# Altium footprint library SHTC3-TR-2P5KS.PcbLib: 3 footprints
Each footprint in its own frame and in the unit in brackets; x right, y up, seen from the top. Pads: shape width x height; smd on the part's side, far side on the other; paste and mask are expansions set on the pad; w line width, h text height; cw(c..) or ccw(c..) is an arc to the next point about the centre after c.
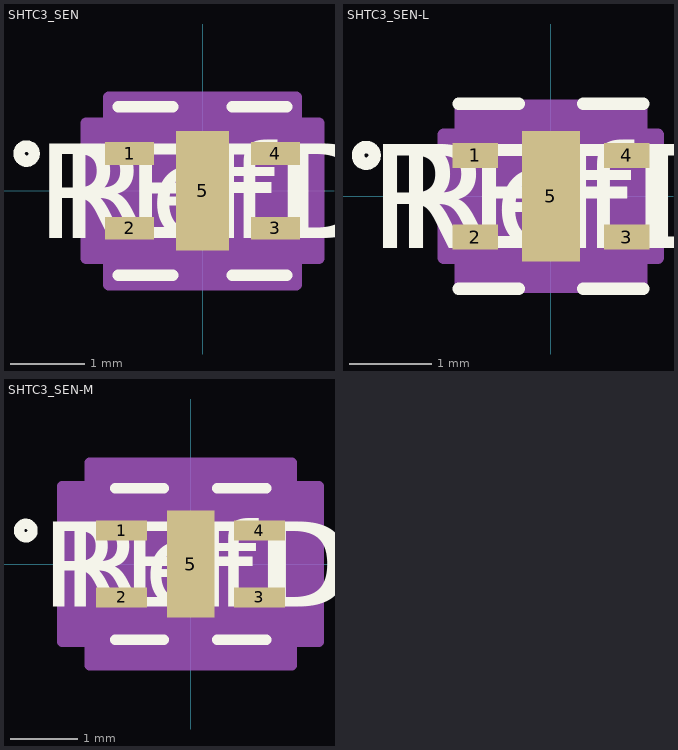
[diagram p0: the footprints below, top view; thin cyan lines are the x and y axes]

## SHTC3_SEN [mil]
pads (5):
  rect 26x12 smd paste+0 mask+0: 1(-38.5,19.68) 2(-38.5,-19.68) 3(38.5,-19.68) 4(38.5,19.68)
  rect 28x63 smd paste+0 mask+0: 5(0,0)
Top Overlay:
  circle w6: c-92.87,19.68 r4
  lines w6: -44.5,-44.5 -15.62,-44.5 ; -44.5,44.5 -15.62,44.5 ; 15.62,-44.5 44.5,-44.5 ; 15.62,44.5 44.5,44.5
  text "RefDes" at -75,-25 h50
  text "REFDES" at -87.5,-25 h50
Mechanical 13:
  circle w0: c-25.5,19.68 r3
  lines w0: -12,39.5 ccw(c0,39.5) 12,39.5
  lines w1: -39.5,-39.5 39.5,-39.5 39.5,39.5 -39.5,39.5 -39.5,-39.5
  text "RefDes2" at -87.5,-25 h50
Mechanical 15:
  region: -49.5,-35.69 -61.5,-35.69 -61.5,35.69 -49.5,35.69 -49.5,49.5 49.5,49.5 49.5,35.69 61.5,35.69 61.5,-35.69 49.5,-35.69 49.5,-49.5 -49.5,-49.5
  lines w6: -61.5,-35.69 -61.5,35.69 -49.5,35.69 -49.5,49.5 49.5,49.5 49.5,35.69 61.5,35.69 61.5,-35.69 49.5,-35.69 49.5,-49.5 -49.5,-49.5 -49.5,-35.69 -61.5,-35.69
3D body "SHTC3_SEN.step": height 30.12, standoff 0, extent -39.49,-39.49 39.49,39.49

## SHTC3_SEN-L [mil]
pads (5):
  rect 22x12 smd paste+0 mask+0: 1(-36.5,19.68) 2(-36.5,-19.68) 3(36.5,-19.68) 4(36.5,19.68)
  rect 28x63 smd paste+0 mask+0: 5(0,0)
Top Overlay:
  circle w6: c-88.87,19.68 r4
  lines w6: -44.5,-44.5 -15.62,-44.5 ; -44.5,44.5 -15.62,44.5 ; 15.62,-44.5 44.5,-44.5 ; 15.62,44.5 44.5,44.5
  text "RefDes" at -75,-25 h50
  text "REFDES" at -87.5,-25 h50
Mechanical 13:
  circle w0: c-25.5,19.68 r3
  lines w0: -12,39.5 ccw(c0,39.5) 12,39.5
  lines w1: -39.5,-39.5 39.5,-39.5 39.5,39.5 -39.5,39.5 -39.5,-39.5
  text "RefDes2" at -87.5,-25 h50
Mechanical 15:
  region: -43.5,-29.68 -51.5,-29.68 -51.5,29.68 -43.5,29.68 -43.5,43.5 43.5,43.5 43.5,29.68 51.5,29.68 51.5,-29.68 43.5,-29.68 43.5,-43.5 -43.5,-43.5
  lines w6: -51.5,-29.68 -51.5,29.68 -43.5,29.68 -43.5,43.5 43.5,43.5 43.5,29.68 51.5,29.68 51.5,-29.68 43.5,-29.68 43.5,-43.5 -43.5,-43.5 -43.5,-29.68 -51.5,-29.68
3D body "SHTC3_SEN.step": height 30.12, standoff 0, extent -39.49,-39.49 39.49,39.49

## SHTC3_SEN-M [mil]
pads (5):
  rect 30x12 smd paste+0 mask+0: 1(-40.5,19.68) 2(-40.5,-19.68) 3(40.5,-19.68) 4(40.5,19.68)
  rect 28x63 smd paste+0 mask+0: 5(0,0)
Top Overlay:
  circle w6: c-96.87,19.68 r4
  lines w6: -44.5,-44.5 -15.62,-44.5 ; -44.5,44.5 -15.62,44.5 ; 15.62,-44.5 44.5,-44.5 ; 15.62,44.5 44.5,44.5
  text "RefDes" at -75,-25 h50
  text "REFDES" at -87.5,-25 h50
Mechanical 13:
  circle w0: c-25.5,19.68 r3
  lines w0: -12,39.5 ccw(c0,39.5) 12,39.5
  lines w1: -39.5,-39.5 39.5,-39.5 39.5,39.5 -39.5,39.5 -39.5,-39.5
  text "RefDes2" at -87.5,-25 h50
Mechanical 15:
  region: -59.5,-45.69 -75.5,-45.69 -75.5,45.69 -59.5,45.69 -59.5,59.5 59.5,59.5 59.5,45.69 75.5,45.69 75.5,-45.69 59.5,-45.69 59.5,-59.5 -59.5,-59.5
  lines w6: -75.5,-45.69 -75.5,45.69 -59.5,45.69 -59.5,59.5 59.5,59.5 59.5,45.69 75.5,45.69 75.5,-45.69 59.5,-45.69 59.5,-59.5 -59.5,-59.5 -59.5,-45.69 -75.5,-45.69
3D body "SHTC3_SEN.step": height 30.12, standoff 0, extent -39.49,-39.49 39.49,39.49